# Altium schematic symbol library Operational Amplifiers.SchLib: 125 symbols
Pins are listed as number, name and electrical type; pins without a type are passive.

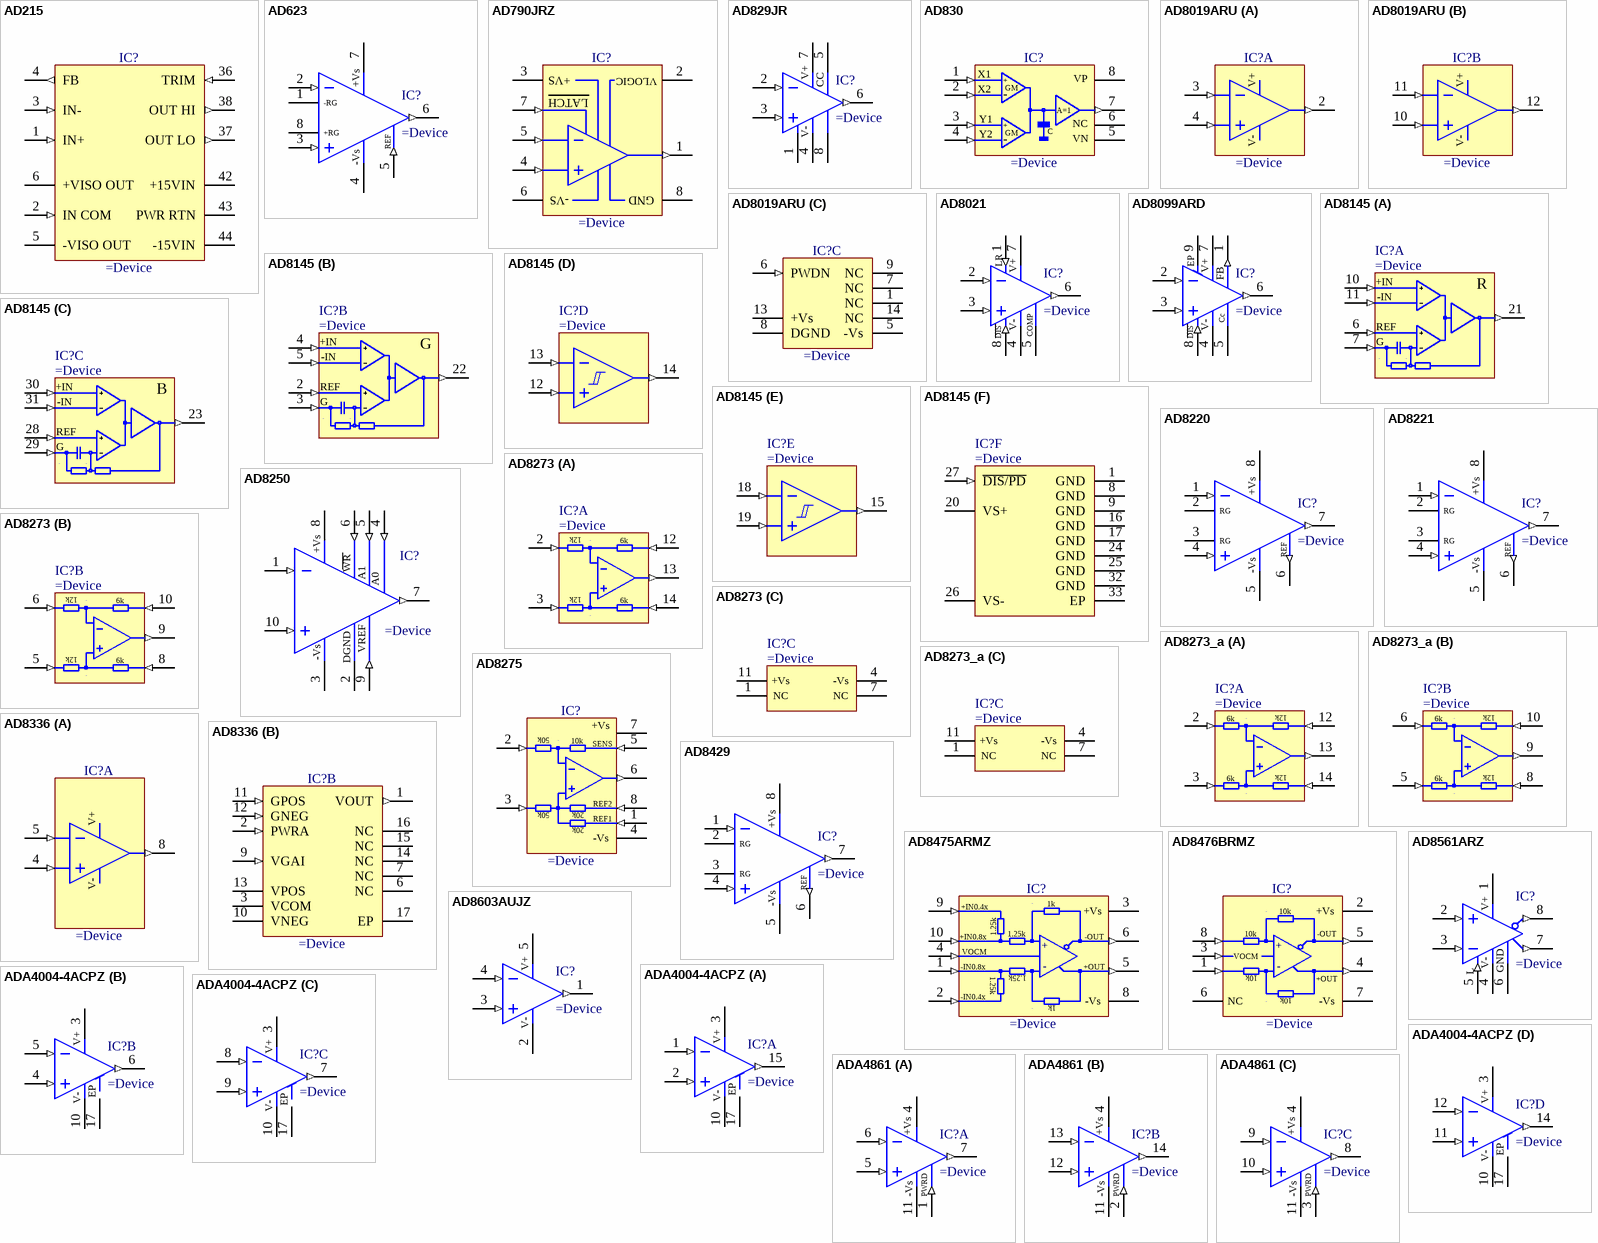
[diagram p0: symbols AD215 to ADA4861]

## AD215
designator IC?
120 kHz Bandwidth, Low Distortion, Isolation Amplifier
pins: 1 IN+ (in), 2 IN COM (in), 3 IN- (in), 4 FB (out), 5 -VISO OUT (power), 6 +VISO OUT (power), 36 TRIM (in), 37 OUT LO (out), 38 OUT HI (out), 42 +15VIN (power), 43 PWR RTN (power), 44 -15VIN (power)

## AD623
designator IC?
ingle-Supply, Rail-to-Rail, Low Cost  Instrumentation Amplifier
pins: 1 -RG, 2 -IN (in), 3 +IN (in), 4 -Vs (power), 5 REF (in), 6 Vout (out), 7 +Vs (power), 8 +RG

## AD790JRZ
designator IC?
Fast Precision Comparator
pins: 1 OUT (out), 2 VLOGIC (power), 3 +VS (power), 4 +IN (in), 5 -IN (in), 6 -VS (power), 7 ~{LATCH} (in), 8 GND (power)
text: LATCH

## AD829JR
designator IC?
High Speed, Low Noise Video Operational Amplifier
pins: 1 ~{DS}, 2 IN- (in), 3 IN+ (in), 4 V- (power), 5 CCOMP, 6 OUT (out), 7 V+ (power), 8 COMP
text: CC

## AD830
designator IC?
High Speed, Difference Amplifier
pins: 1 X1 (in), 2 X2 (in), 3 Y1 (in), 4 Y2 (in), 5 VN (power), 6 NC, 7 OUT (out), 8 VP (power)
text: +; GM; -; A=1; C

## AD8019ARU
designator IC?
DSL Line Driver Amplifier With Power-Down
part A pins: 2 OUT (out), 3 -IN (in), 4 +IN (in)
part B pins: 10 +IN (in), 11 -IN (in), 12 OUT (out)
part C pins: 1 NC, 5 -Vs (power), 6 PWDN (in), 7 NC, 8 DGND (power), 9 NC, 13 +Vs (power), 14 NC
part A text: V+; V-
part B text: V+; V-

## AD8021
designator IC?
Low Noise, High Speed Amplifier for 16-Bit Systems
pins: 1 LOGIC REF (in), 2 IN- (in), 3 IN+ (in), 4 V- (power), 5 COMP, 6 OUT (out), 7 V+ (power), 8 ~{DS} (in)
text: LR; DIS

## AD8099ARD
designator IC?
Ultralow Distortion, High Speed 0.95nV/sqrt Hz Voltage Noise Operational Amplifier
pins: 1 FB (out), 2 IN- (in), 3 IN+ (in), 4 V- (power), 5 CC, 6 OUT (out), 7 V+ (power), 8 ~{DS} (in), 9 EP (power)
text: Cc; DIS

## AD8145
designator IC?
High Speed, Triple Differential Receiver With Comparators
part A pins: 6 REF_R (in), 7 GAIN_R (in), 10 IN+_R (in), 11 IN-_R (in), 21 OUT_R (out)
part B pins: 2 REF_G (in), 3 GAIN_G (in), 4 IN+_G (in), 5 IN-G (in), 22 OUT_G (out)
part C pins: 23 OUT_B (out), 28 REF_B (in), 29 GAIN_B (in), 30 IN+_B (in), 31 IN-_B (in)
part D pins: 12 COMPA_IN+ (in), 13 COMPA_IN- (in), 14 COMPA_OUT (out)
part E pins: 15 COMPB_OUT (out), 18 COMPB_IN- (in), 19 COMPB_IN+ (in)
part F pins: 1 GND (power), 8 GND (power), 9 GND (power), 16 GND (power), 17 GND (power), 20 VS+ (power), 24 GND (power), 25 GND (power), 26 VS- (power), 27 ~{DIS/PD} (in), 32 GND (power), 33 EP (power)
part A text: +IN; R; -IN; REF; G
part B text: +IN; G; -IN; REF
part C text: +IN; B; -IN; REF; G

## AD8220
designator IC?
JFET Input Instrumentation Amplifier with Rail-to-Rail Output
pins: 1 -IN (in), 2 RG, 3 RG, 4 +IN (in), 5 -Vs (power), 6 REF (out), 7 Vout (out), 8 +Vs (power)

## AD8221
designator IC?
Precision Instrumentation Amplifier
pins: 1 -IN (in), 2 RG, 3 RG, 4 +IN (in), 5 -Vs (power), 6 REF (out), 7 Vout (out), 8 +Vs (power)

## AD8250
designator IC?
10MHz, 20V/us, G= 1, 2, 5, 10 Icmos Programmable Gain Instrumentation Amplifier
pins: 1 -IN (in), 2 DGND (power), 3 -VS (power), 4 A0 (in), 5 A1 (in), 6 ~{WR} (in), 7 OUT (out), 8 +VS (power), 9 REF (in), 10 +IN (in)
text: +Vs; WR; VREF; -Vs

## AD8273
designator IC?
Very Low Distortion, Dual-Channel, High Precision Difference Amplifier
part A pins: 2 -INA (in), 3 +INA (in), 12 SENSEA (in), 13 OUTA (out), 14 REFA (in)
part B pins: 5 +INB (in), 6 -INB (in), 8 REFB (in), 9 OUTB (out), 10 SENSEB (in)
part C pins: 1 NC, 4 -Vs (power), 7 NC, 11 +Vs (power)
part A text: 12k; 6k
part B text: 12k; 6k

## AD8273_a
designator IC?
Very Low Distortion, Dual-Channel, High Precision Difference Amplifier
part A pins: 2 -INA (in), 3 +INA (in), 12 SENSEA (in), 13 OUTA (out), 14 REFA (in)
part B pins: 5 +INB (in), 6 -INB (in), 8 REFB (in), 9 OUTB (out), 10 SENSEB (in)
part C pins: 1 NC, 4 -Vs (power), 7 NC, 11 +Vs (power)
part A text: 6k; 12k
part B text: 6k; 12k

## AD8275
designator IC?
G = 0.2, Level Translation, 16-Bit ADC Driver
pins: 1 REF1 (in), 2 IN- (in), 3 IN+ (in), 4 -Vs (power), 5 SENSE (in), 6 OUT (out), 7 +Vs (power), 8 REF2 (in)
text: 50k; 10k; SENS; 20k

## AD8336
designator IC?
Wide Bandwidth, DC Coupled Variable Gain Amplifiers
part A pins: 4 IN+ (in), 5 IN- (in), 8 PRAO (out)
part B pins: 1 VOUT (out), 2 PWRA (in), 3 VCOM (power), 6 NC, 7 NC, 9 VGAI (in), 10 VNEG (power), 11 GPOS (in), 12 GNEG (in), 13 VPOS (power), 14 NC, 15 NC, 16 NC, 17 EP (power)
part A text: V+; V-

## AD8429
designator IC?
1 nV/sqrt Hz Low Noise Instrumentation Amplifier
pins: 1 -IN (in), 2 RG, 3 RG, 4 +IN (in), 5 -Vs (power), 6 REF (out), 7 Vout (out), 8 +Vs (power)

## AD8475ARMZ
designator IC?
Precision, Selectable Gain, Fully Differential Funnel Amplifier
pins: 1 -IN0.8x (in), 2 -IN0.4x (in), 3 +Vs (power), 4 VOCM (in), 5 OUT+ (out), 6 OUT- (out), 8 -Vs (power), 9 +IN0.4x (in), 10 +IN0.8x (in)
text: 1k; 1.25k; -OUT; +; -; +OUT

## AD8476BRMZ
designator IC?
Low Power, Unity Gain, Fully Differential Amplifier and ADC Driver
pins: 1 IN- (in), 2 +Vs (power), 3 VOCM (in), 4 +OUT (out), 5 -OUT (out), 6 NC, 7 -Vs (power), 8 IN+ (in)
text: 10k; +; -

## AD8561ARZ
designator IC?
Ultrafast 7ns Single Supply Comparator
pins: 1 V+ (power), 2 IN+ (in), 3 IN- (in), 4 V- (power), 5 LE (in), 6 GND (power), 7 OUT (out), 8 ~{OUT} (out)
text: L

## AD8603AUJZ
designator IC?
Precision Micropower, Low Noise CMOS, Rail-to-Rail Input/Output Operational Amplifier
pins: 1 OUT (out), 2 V- (power), 3 IN+ (in), 4 IN- (in), 5 V+ (power)

## ADA4004-4ACPZ
designator IC?
Quad Operational Amplifier
pins on every part: 3 V+ (power), 10 V- (power), 17 EP (power)
part A pins: 1 IN- (in), 2 IN+ (in), 15 OUT (out)
part B pins: 4 IN+ (in), 5 IN- (in), 6 OUT (out)
part C pins: 7 OUT (out), 8 IN- (in), 9 IN+ (in)
part D pins: 11 IN+ (in), 12 IN- (in), 14 OUT (out)

## ADA4861
designator IC?
High Speed, Low Cost, Triple Operational Amplifier
pins on every part: 4 +Vs (power), 11 -Vs (power)
part A pins: 1 PWRDOWN (in), 5 IN+ (in), 6 IN- (in), 7 OUT (out)
part B pins: 2 PWRDOWN (in), 12 IN+ (in), 13 IN- (in), 14 OUT (out)
part C pins: 3 PWRDOWN (in), 8 OUT (out), 9 IN- (in), 10 IN+ (in)
part A text: PWRD
part B text: PWRD
part C text: PWRD

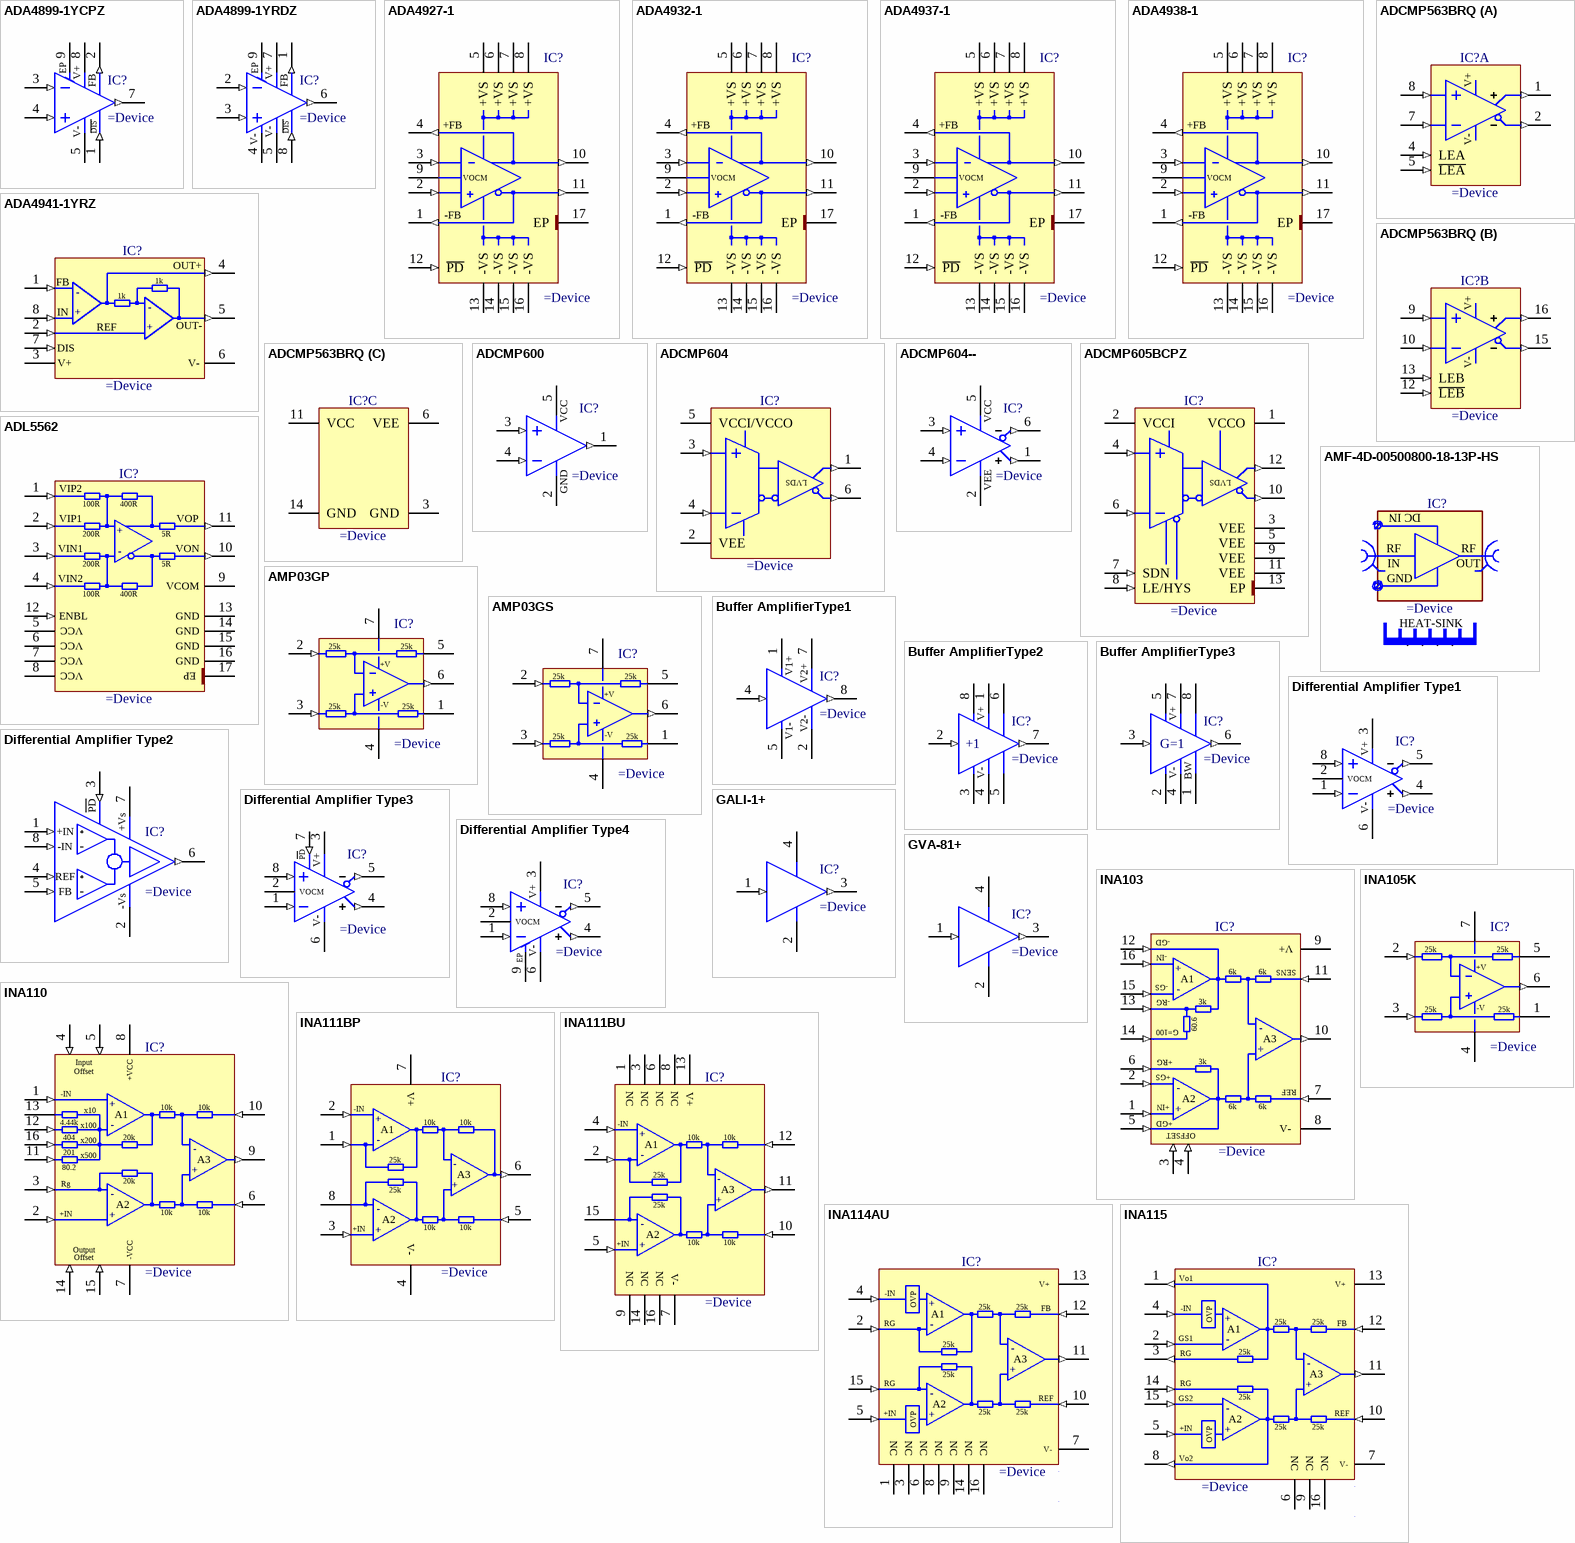
[diagram p1: symbols ADA4899-1YCPZ to INA115]

## ADA4899-1YCPZ
designator IC?
Unity-Gain Stable, Ultralow Distortion, 1 nV/vHz Voltage Noise, High Speed Operational Amplifier
pins: 1 ~{DIS} (in), 2 FB (out), 3 IN- (in), 4 IN+ (in), 5 V- (power), 7 OUT (out), 8 V+ (power), 9 EP (power)
text: DIS

## ADA4899-1YRDZ
designator IC?
Unity-Gain Stable, Ultralow Distortion, 1 nV/vHz Voltage Noise, High Speed Operational Amplifier
pins: 1 FB (out), 2 IN- (in), 3 IN+ (in), 4 V- (power), 5 V- (power), 6 OUT (out), 7 V+ (power), 8 ~{DIS} (in), 9 EP (power)
text: DIS

## ADA4927-1
designator IC?
Ultralow Distortion Current Feedback Differential ADC Driver
pins: 1 -FB (out), 2 +IN (in), 3 -IN (in), 4 +FB (out), 5 +VS (power), 6 +VS (power), 7 +VS (power), 8 +VS (power), 9 VOCM, 10 +OUT (out), 11 -OUT (out), 12 ~{PD} (in), 13 -VS (power), 14 -VS (power), 15 -VS (power), 16 -VS (power), 17 EP (power)

## ADA4932-1
designator IC?
Low Power Differential ADC Driver
pins: 1 -FB (out), 2 +IN (in), 3 -IN (in), 4 +FB (out), 5 +VS (power), 6 +VS (power), 7 +VS (power), 8 +VS (power), 9 VOCM, 10 +OUT (out), 11 -OUT (out), 12 ~{PD} (in), 13 -VS (power), 14 -VS (power), 15 -VS (power), 16 -VS (power), 17 EP (power)

## ADA4937-1
designator IC?
Single Ultralow Distortion Differential ADC Driver
pins: 1 -FB (out), 2 +IN (in), 3 -IN (in), 4 +FB (out), 5 +VS (power), 6 +VS (power), 7 +VS (power), 8 +VS (power), 9 VOCM, 10 +OUT (out), 11 -OUT (out), 12 ~{PD} (in), 13 -VS (power), 14 -VS (power), 15 -VS (power), 16 -VS (power), 17 EP (power)

## ADA4938-1
designator IC?
Single Ultralow Distortion Differential ADC Driver
pins: 1 -FB (out), 2 +IN (in), 3 -IN (in), 4 +FB (out), 5 +VS (power), 6 +VS (power), 7 +VS (power), 8 +VS (power), 9 VOCM, 10 +OUT (out), 11 -OUT (out), 12 ~{PD} (in), 13 -VS (power), 14 -VS (power), 15 -VS (power), 16 -VS (power), 17 EP (power)

## ADA4941-1YRZ
designator IC?
Single-Supply, Differential 18-Bit ADC Driver
pins: 1 FB (in), 2 REF (in), 3 V+ (power), 4 OUT+ (out), 5 OUT- (out), 6 V- (power), 7 DIS (in), 8 IN (in)
text: 1k; -; +

## ADCMP563BRQ
designator IC?
Dual, High Speed ECL Comparators
part A pins: 1 QA (out), 2 ~{QA} (out), 4 LEA (in), 5 ~{LEA} (in), 7 -INA (in), 8 +INA (in)
part B pins: 9 +INB (in), 10 -INB (in), 12 ~{LEB} (in), 13 LEB (in), 15 ~{QB} (out), 16 QB (out)
part C pins: 3 GND (power), 6 VEE (power), 11 VCC (power), 14 GND (power)
part A text: V+; V-
part B text: V+; V-

## ADCMP600
designator IC?
Rail-to-Rail, Very Fast, 2.5 V to 5.5 V Single-Supply TTL/CMOS Comparator
pins: 1 q (out), 2 GND (power), 3 VP (in), 4 VN (in), 5 VCC (power)

## ADCMP604
designator IC?
Rail-to-Rail, Very Fast, 2.5 V to 5.5 V Single-Supply LVDS Comparators
pins: 1 Q (out), 2 VEE (power), 3 VP (in), 4 VN (in), 5 VCCI/VCCO (power), 6 ~{Q} (out)
text: LVDS

## ADCMP604--
designator IC?
Rail-to-Rail, Very Fast, 2.5 V to 5.5 V Single-Supply LVDS Comparators
pins: 1 Q (out), 2 VEE (power), 3 VP (in), 4 VN (in), 5 VCC (power), 6 ~{Q} (out)

## ADCMP605BCPZ
designator IC?
Rail-to-Rail, Very Fast, 2.5 V to 5.5 V Single-Supply LVDS Comparators
pins: 1 VCCO (power), 2 VCCI (power), 3 VEE (power), 4 VP (in), 5 VEE (power), 6 VN (in), 7 SDN (in), 8 LE/HYS (in), 9 VEE (power), 10 ~{Q} (out), 11 VEE (power), 12 Q (out), 13 EP (power)
text: LVDS

## ADL5562
designator IC?
3.3 GHz Ultralow Distortion RF/IF Differential Amplifier
pins: 1 VIP2 (in), 2 VIP1 (in), 3 VIN1 (in), 4 VIN2 (in), 5 VCC (power), 6 VCC (power), 7 VCC (power), 8 VCC (power), 9 VCOM (power), 10 VON (out), 11 VOP (out), 12 EN (in), 13 GND (power), 14 GND (power), 15 GND (power), 16 GND (power), 17 EP (power)
text: 100R; 400R; 200R; +; 5R; -; ENBL

## AMF-4D-00500800-18-13P-HS
designator IC?
3.5 - 15GHz AMF Series Amplifier
pins: 1 CASE (power), 2 CASE (power), 3 CASE (power), 4 CASE (power)
text: DC IN; RF; IN; OUT; GND; HEAT-SINK

## AMP03GP
designator IC?
Precision, Unity-Gain Differential Amplifier
pins: 1 REF, 2 IN- (in), 3 IN+ (in), 4 -VEE (power), 5 SENS, 6 OUT (out), 7 +VCC (power)
text: 25k; +V; -V

## AMP03GS
designator IC?
Precision, Unity-Gain Differential Amplifier
pins: 1 REF, 2 IN- (in), 3 IN+ (in), 4 -VEE (power), 5 SENS, 6 OUT (out), 7 +VCC (power)
text: 25k; +V; -V

## Buffer AmplifierType1
designator IC?
Buffer Amplifier
pins: 1 V1+ (power), 2 V2- (power), 4 IN (in), 5 V1- (power), 7 V2+ (power), 8 OUT (out)

## Buffer AmplifierType2
designator IC?
Buffer Amplifier
pins: 1 V+ (power), 2 IN (in), 3 NC, 4 V- (power), 5 NC, 6 NC, 7 OUT (out), 8 NC
text: +1

## Buffer AmplifierType3
designator IC?
Buffer Amplifier
pins: 1 BW, 2 NC, 3 IN (in), 4 V- (power), 5 NC, 6 OUT (out), 7 V+ (power), 8 NC
text: G=1

## Differential Amplifier Type1
designator IC?
Differential Amplifier
pins: 1 IN- (in), 2 VOCM, 3 V+ (power), 4 VOUT+ (out), 5 VOUT- (out), 6 V- (power), 8 IN+ (in)

## Differential Amplifier Type2
designator IC?
Differential Receiver Amplifier
pins: 1 +IN (in), 2 -Vs (power), 3 ~{PD} (in), 4 REF (in), 5 FB (in), 6 OUT (out), 7 +Vs (power), 8 -IN (in)
text: PD

## Differential Amplifier Type3
designator IC?
Differential Amplifier
pins: 1 IN- (in), 2 VOCM, 3 Vs+ (power), 4 VOUT+ (out), 5 VOUT- (out), 6 Vs- (power), 7 ~{PD} (in), 8 IN+ (in)
text: PD; V+; V-

## Differential Amplifier Type4
designator IC?
Differential Amplifier
pins: 1 IN- (in), 2 VOCM, 3 V+ (power), 4 VOUT+ (out), 5 VOUT- (out), 6 V- (power), 8 IN+ (in), 9 Exposed Pad (power)
text: EP

## GALI-1+
designator IC?
DC-8 GHz Surface Mount Monolithic Amplifier
pins: 1 RF IN (in), 2 GND (power), 3 RF OUT (out), 4 GND (power)

## GVA-81+
designator IC?
5 Volt-Surface Mount Monolithic Amplifier
pins: 1 RF IN (in), 2 GND (power), 3 RF OUT (out), 4 GND (power)

## INA103
designator IC?
Low Noise, Low Distortion Instrumentation Amplifier
pins: 1 +IN (in), 2 +GAINS (in), 3 +OFFSET (in), 4 -OFFSET (in), 5 +GAIND (in), 6 +RG (in), 7 REF (in), 8 V- (power), 9 V+ (power), 10 OUT (out), 11 SENSE (in), 12 -GD (in), 13 -RG (in), 14 G=100 (in), 15 -GAINS (in), 16 -IN (in)
text: +; 6k; SENS; A1; -GS; -; 3k; 60.6; A3; +GS; A2; +GD; OFFSET

## INA105K
designator IC?
Precision, Unity-Gain Differential Amplifier
pins: 1 REF, 2 IN- (in), 3 IN+ (in), 4 -VEE (power), 5 SENS, 6 OUT (out), 7 +VCC (power)
text: 25k; +V; -V

## INA110
designator IC?
Fast-Settling FET-Input Very High Accuracy Instrumentation Amplifier
pins: 1 VIN- (in), 2 VIN+ (in), 3 RG (in), 4 OFFSET (in), 5 OFFSET (in), 6 REF (in), 7 -VCC (power), 8 +VCC (power), 9 OUT (out), 10 Sense (in), 11 x500 (in), 12 x100 (in), 13 x10, 14 OFFSET (in), 15 OFFSET (in), 16 x200 (in)
text: Input; Offset; -IN; +; 10k; A1; 4.44k; -; 404; 20k; 201; A3; 80.2; Rg; A2; +IN; Output

## INA111BP
designator IC?
High Speed FET-Input Instrumentation Amplifier
pins: 1 RG (in), 2 VIN- (in), 3 VIN+ (in), 4 V- (power), 5 REF (in), 6 VO (out), 7 V+ (power), 8 RG
text: -IN; +; 10k; A1; -; 25k; A3; A2; +IN

## INA111BU
designator IC?
High Speed FET-Input Instrumentation Amplifier
pins: 1 NC, 2 RG (in), 3 NC, 4 VIN- (in), 5 VIN+ (in), 6 NC, 7 V- (power), 8 NC, 9 NC, 10 REF (in), 11 VO (out), 12 FB (in), 13 V+ (power), 14 NC, 15 RG, 16 NC
text: -IN; +; 10k; A1; -; 25k; A3; A2; +IN

## INA114AU
designator IC?
Precision, Instrumentation Amplifier
pins: 1 NC, 2 RG (in), 3 NC, 4 -IN (in), 5 +IN (in), 6 NC, 7 V- (power), 8 NC, 9 NC, 10 REF (in), 11 VO (out), 12 FB (in), 13 V+ (power), 14 NC, 15 RG (in), 16 NC
text: OVP; +; 25k; A1; -; A3; A2

## INA115
designator IC?
Precision, Instrumentation Amplifier
pins: 1 Vo1 (out), 2 GS1 (in), 3 RG (out), 4 -IN (in), 5 +IN (in), 6 NC, 7 V- (power), 8 Vo2 (out), 9 NC, 10 REF (in), 11 Vo (out), 12 FB (in), 13 V+ (power), 14 RG (in), 15 GS2 (in), 16 NC
text: OVP; +; 25k; A1; -; A3; A2

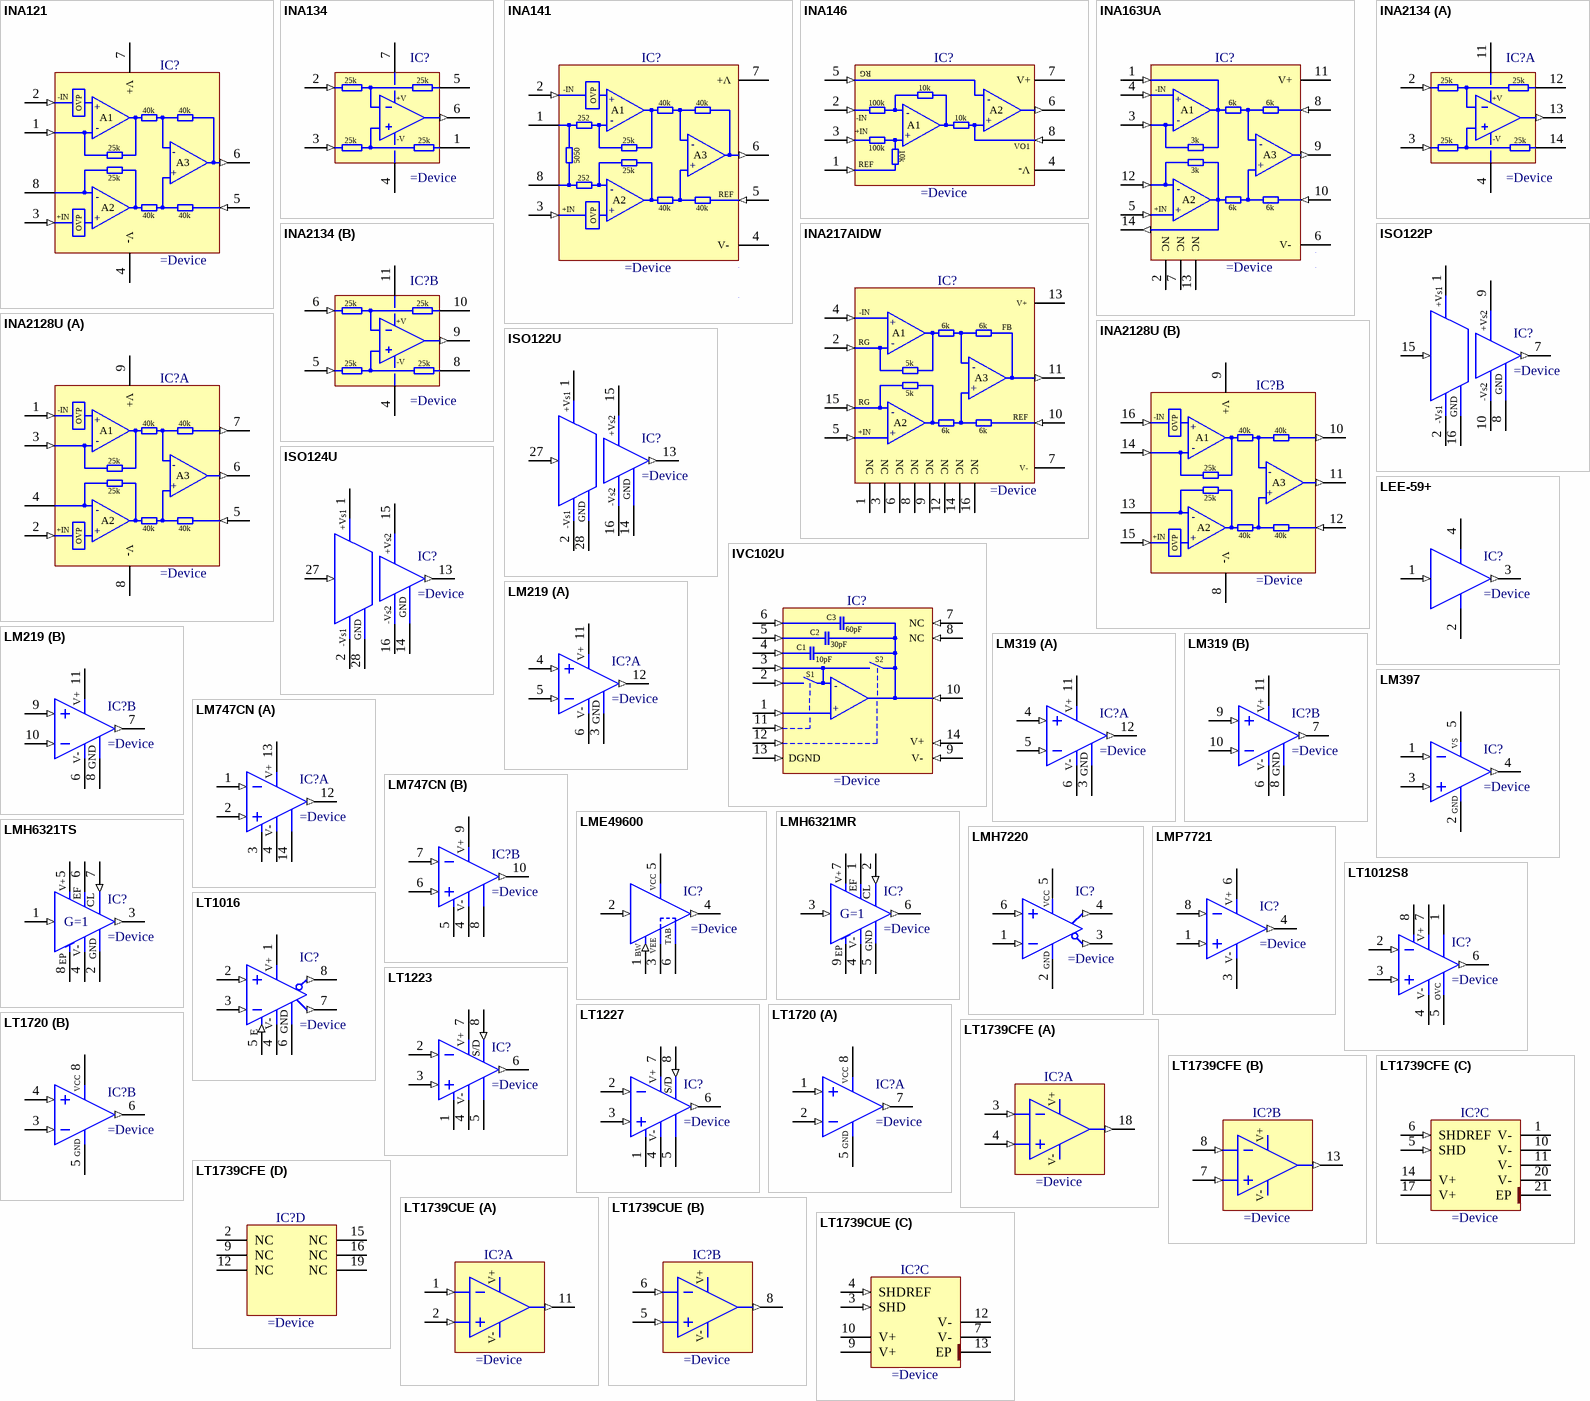
[diagram p2: symbols INA121 to LT1739CUE]

## INA121
designator IC?
FET-Input, Low Power Instrumentation Amplifier
pins: 1 RG (in), 2 VIN- (in), 3 VIN+ (in), 4 V- (power), 5 REF (in), 6 VO (out), 7 V+ (power), 8 RG
text: -IN; OVP; +; 40k; A1; -; 25k; A3; A2; +IN

## INA134
designator IC?
Audio Differential Line Receiver 0dB (G = 1)
pins: 1 REF, 2 IN- (in), 3 IN+ (in), 4 -VEE (power), 5 SENS, 6 OUT (out), 7 +VCC (power)
text: 25k; +V; -V

## INA141
designator IC?
Precision, Low Power, G = 10, 100 Instrumentation Amplifier
pins: 1 J, 2 vin- (in), 3 VIN+ (in), 4 V- (power), 5 REF (in), 6 Vo (out), 7 V+ (power), 8 J
text: -IN; OVP; +; 40k; A1; 252; -; 25k; 5050; A3; A2; +IN

## INA146
designator IC?
High-Voltage, Programmable Gain Difference Amplifier
pins: 1 REF (in), 2 VIN- (in), 3 VIN+ (in), 4 V- (power), 5 REF (in), 6 Vo (out), 7 V+ (power), 8 VO1 (in)
text: RG; 10k; 100k; -; A2; -IN; +; A1; +IN

## INA163UA
designator IC?
Low-Noise, Low-Distortion, Instrumentation Amplifier
pins: 1 VO1 (in), 2 NC, 3 GS1 (in), 4 VIN- (in), 5 VIN+ (in), 6 V- (power), 7 NC, 8 SENSE (in), 9 VO (out), 10 REF (in), 11 V+ (power), 12 GS2 (in), 13 NC, 14 VO2 (out)
text: -IN; +; 6k; A1; -; 3k; A3; A2; +IN

## INA217AIDW
designator IC?
Low-Noise, Low-Distortion, Instrumentation Amplifier
pins: 1 NC, 2 RG1 (in), 3 NC, 4 -IN (in), 5 +IN (in), 6 NC, 7 V- (power), 8 NC, 9 NC, 10 REF (in), 11 VO (out), 12 NC, 13 V+ (power), 14 NC, 15 RG2 (in), 16 NC
text: +; 6k; FB; A1; RG; -; 5k; A3; A2

## INA2128U
designator IC?
Dual, Low Power Instrumentation Amplifier
pins on every part: 8 V- (power), 9 V+ (power)
part A pins: 1 VINA- (in), 2 VINA+ (in), 3 RGA (in), 4 RGA, 5 REFA (in), 6 VOA (out), 7 SENSEA (out)
part B pins: 10 SENSEB (out), 11 VOB (out), 12 REFB (in), 13 RGB, 14 RGB (in), 15 VINB+ (in), 16 VINB- (in)
part A text: -IN; OVP; +; 40k; A1; -; 25k; A3; A2; +IN
part B text: -IN; OVP; +; 40k; A1; -; 25k; A3; A2; +IN

## INA2134
designator IC?
Dual Audio Differential Line Receiver 0dB (G = 1)
pins on every part: 4 V- (power), 11 V+ (power)
part A pins: 2 IN- (in), 3 IN+ (in), 12 SENS, 13 OUT (out), 14 REF
part B pins: 5 IN+ (in), 6 IN- (in), 8 REF, 9 OUT (out), 10 SENS
part A text: 25k; +V; -V
part B text: 25k; +V; -V

## ISO122P
designator IC?
Precision Lowest Cost Isolation Amplifier
pins: 1 +Vs1 (power), 2 -Vs1 (power), 7 VOUT (out), 8 GND (power), 9 +Vs2 (power), 10 -Vs2 (power), 15 VIN (in), 16 GND (power)

## ISO122U
designator IC?
Precision Lowest Cost Isolation Amplifier
pins: 1 +Vs1 (power), 2 -Vs1 (power), 13 VOUT (out), 14 GND (power), 15 +Vs2 (power), 16 -Vs2 (power), 27 VIN (in), 28 GND (power)

## ISO124U
designator IC?
Precision Lowest Cost Isolation Amplifier
pins: 1 +Vs1 (power), 2 -Vs1 (power), 13 VOUT (out), 14 GND2 (power), 15 +Vs2 (power), 16 -Vs2 (power), 27 VIN (in), 28 GND1 (power)
text: GND

## IVC102U
designator IC?
Precision Switched Integrator Transimpedance Amplifier
pins: 1 AGND (in), 2 IIN (in), 3 -IN (in), 4 C1 (in), 5 C2 (in), 6 C3 (in), 7 NC (in), 8 NC (in), 9 V- (in), 10 Vo (in), 11 S1 (in), 12 S2 (in), 13 DGND (in), 14 V+ (in)
text: 60pF; 30pF; 10pF; -; +

## LEE-59+
designator IC?
DC-5GGHz Monolithic Amplifier
pins: 1 RF IN (in), 2 GND (power), 3 RF OUT (out), 4 GND (power)

## LM219
designator IC?
High Speed Dual Comparators
pins on every part: 6 V- (power), 11 V+ (power)
part A pins: 3 GND1 (power), 4 IN+ (in), 5 IN- (in), 12 OUT1 (out)
part B pins: 7 OUT2 (out), 8 GND2 (power), 9 IN+ (in), 10 IN- (in)
part A text: GND
part B text: GND

## LM319
designator IC?
High Speed Dual Comparators
pins on every part: 6 V- (power), 11 V+ (power)
part A pins: 3 GND1 (power), 4 IN+ (in), 5 IN- (in), 12 OUT1 (out)
part B pins: 7 OUT2 (out), 8 GND2 (power), 9 IN+ (in), 10 IN- (in)
part A text: GND
part B text: GND

## LM397
designator IC?
Single General Purpose Voltage Comparator
pins: 1 IN- (in), 2 GND (power), 3 IN+ (in), 4 OUT (out), 5 VS (power)

## LM747CN
designator IC?
Dual Operational Amplifier
pins on every part: 4 V- (power)
part A pins: 1 IN- (in), 2 IN+ (in), 3 OFFSET, 12 OUT (out), 13 V+ (power), 14 OFFSET
part B pins: 5 OFFSET, 6 IN+ (in), 7 IN- (in), 8 OFFSET, 9 V+ (power), 10 OUT (out)

## LME49600
designator IC?
High Performance, High Fidelity, High Current Audio Buffer
pins: 1 BW (in), 2 IN (in), 3 VEE (power), 4 OUT (out), 5 VCC (power), 6 TAB (power)

## LMH6321MR
designator IC?
Buffer Amplifier
pins: 1 BW (oc), 2 NC (in), 3 IN (in), 4 V- (power), 5 NC, 6 OUT (out), 7 V+ (power), 9 NC (power)
text: EF; CL; G=1; GND; EP

## LMH6321TS
designator IC?
Buffer Amplifier
pins: 1 IN (in), 2 NC, 3 OUT (out), 4 V- (power), 5 V+ (power), 6 BW (oc), 7 NC (in), 8 NC (power)
text: EF; CL; G=1; GND; EP

## LMH7220
designator IC?
High Speed Comparator with LVDS Output
pins: 1 IN- (in), 2 GND (power), 3 VOUT~{Q} (out), 4 VOUTQ (out), 5 VCC (power), 6 IN+ (in)

## LMP7721
designator IC?
Femtoampere Input Bias Current Precision Amplifier
pins: 1 IN+ (in), 3 V- (power), 4 OUT (out), 6 V+ (power), 8 IN- (in)

## LT1012S8
designator IC?
Picoamp Input Current, Microvolt Offset, Low Noise Operational Amplifier
pins: 1 TRIM`, 2 IN- (in), 3 IN+ (in), 4 V- (power), 5 CC, 6 OUT (out), 7 V+ (power), 8 TRIM
text: OVC

## LT1016
designator IC?
UltraFast Precision 10ns Comparator
pins: 1 V+ (power), 2 IN+ (in), 3 IN- (in), 4 V- (power), 5 LE (in), 6 GND (power), 7 OUT (out), 8 ~{OUT} (out)
text: E

## LT1223
designator IC?
100MHz Current Feedback Amplifier
pins: 1 OFFSET, 2 IN- (in), 3 IN+ (in), 4 V- (power), 5 OFFSET, 6 OUT (out), 7 V+ (power), 8 SHDN (in)
text: S/D

## LT1227
designator IC?
140MHz Video Current Feedback Amplifier
pins: 1 OFFSET, 2 IN- (in), 3 IN+ (in), 4 V- (power), 5 OFFSET, 6 OUT (out), 7 V+ (power), 8 SHDN (in)
text: S/D

## LT1720
designator IC?
Dual 4.5ns, Single Supply 3V/5V Comparators With Rail-to-Rail Outputs
pins on every part: 5 GND (power), 8 V+ (power)
part A pins: 1 IN+ (in), 2 IN- (in), 7 OUT (out)
part B pins: 3 IN- (in), 4 IN+ (in), 6 OUT (out)
part A text: VCC
part B text: VCC

## LT1739CFE
designator IC?
Dual 500mA, 200MHz xDSL Line Driver Amplifier
part A pins: 3 -IN (in), 4 +IN (in), 18 OUT (out)
part B pins: 7 +IN (in), 8 -IN (in), 13 OUT (out)
part C pins: 1 V- (power), 5 SHD (in), 6 SHDREF (in), 10 V- (power), 11 V- (power), 14 V+ (power), 17 V+ (power), 20 V- (power), 21 EP (power)
part D pins: 2 NC, 9 NC, 12 NC, 15 NC, 16 NC, 19 NC

## LT1739CUE
designator IC?
Dual 500mA, 200MHz xDSL Line Driver Amplifier
part A pins: 1 -IN (in), 2 +IN (in), 11 OUT (out)
part B pins: 5 +IN (in), 6 -IN (in), 8 OUT (out)
part C pins: 3 SHD (in), 4 SHDREF (in), 7 V- (power), 9 V+ (power), 10 V+ (power), 12 V- (power), 13 EP (power)

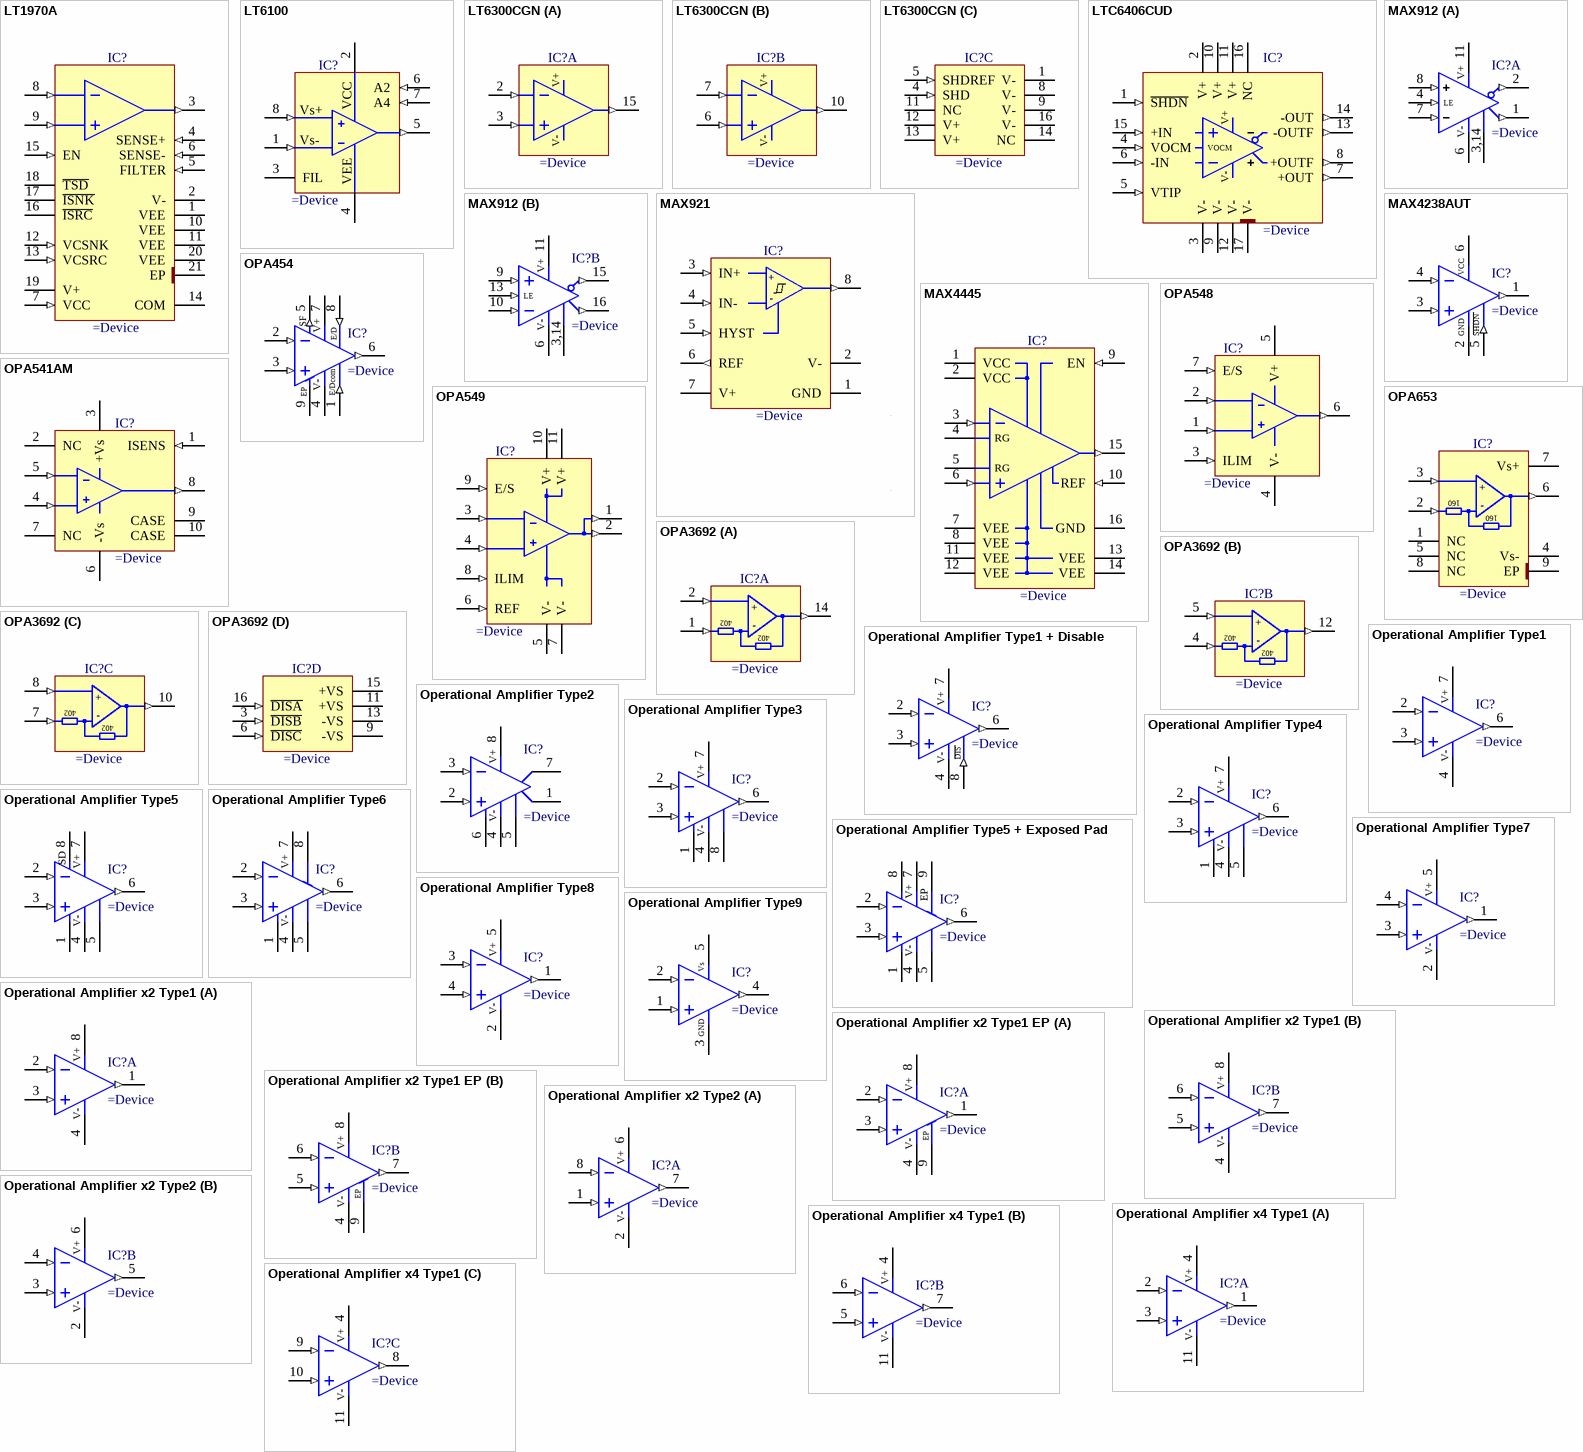
[diagram p3: symbols LT1970A to Operational Amplifier x4 Type1]

## LT1970A
designator IC?
500mA Power Operational Amplifier with Adjustable Precision Current Limit
pins: 1 VEE (power), 2 V- (power), 3 OUT (out), 4 SENSE+ (in), 5 FILTER (in), 6 SENSE- (in), 7 VCC (in), 8 -IN (in), 9 +IN (in), 10 VEE (power), 11 VEE (power), 12 VCSNK (in), 13 VCSRC (in), 14 COM (power), 15 EN (in), 16 ~{ISRC} (oc), 17 ~{ISNK} (oc), 18 ~{TSD} (oc), 19 V+ (power), 20 VEE (power), 21 EP (power)

## LT6100
designator IC?
Precision, Gain Selectable High Side Current Sense Amplifier
pins: 1 Vs- (in), 2 VCC (power), 3 FIL, 4 VEE (power), 5 VOUT (out), 6 A2 (in), 7 A4 (in), 8 Vs+ (in)

## LT6300CGN
designator IC?
Dual 500mA, 200MHz xDSL Line Driver Amplifier
part A pins: 2 -IN (in), 3 +IN (in), 15 OUT (out)
part B pins: 6 +IN (in), 7 -IN (in), 10 OUT (out)
part C pins: 1 V- (power), 4 SHD (in), 5 SHDREF (in), 8 V- (power), 9 V- (power), 11 NC, 12 V+ (power), 13 V+ (power), 14 NC, 16 V- (power)

## LTC6406CUD
designator IC?
3GHz, Low Noise, Rail-to-Rail Input Differential Amplifier/Driver
pins: 1 ~{SHDN} (in), 2 V+ (power), 3 V- (power), 4 VOCM (in), 5 VTIP (in), 6 -IN (in), 7 +OUT (out), 8 +OUTF (out), 9 V- (power), 10 V+ (power), 11 V+ (power), 12 V- (power), 13 -OUTF (out), 14 -OUT (out), 15 +IN (in), 16 NC, 17 V- (power)

## MAX912
designator IC?
Dual Differential Inputs and  Complementary TTL outputs
pins on every part: 3 GND (power), 6 V- (power), 11 V+ (power), 14 GND (power)
part A pins: 1 Q (out), 2 ~{Q} (out), 4 LE (in), 7 IN- (in), 8 IN+ (in)
part B pins: 9 IN+ (in), 10 IN- (in), 13 LE (in), 15 ~{Q} (out), 16 Q (out)
part A text: 3,14
part B text: 3,14

## MAX921
designator IC?
Ultra Low-Power,  Single/Dual-Supply Comparators
pins: 1 GND (power), 2 V- (power), 3 IN+ (in), 4 IN- (in), 5 HYST (in), 6 REF (out), 7 V+ (power), 8 OUT (out)
text: +; -

## MAX4238AUT
designator IC?
Ultra-Low Offset/Drift, Low-Noise, Precision Amplifiers
pins: 1 OUT (out), 2 GND (power), 3 IN+ (in), 4 IN- (in), 5 ~{SHDN} (in), 6 VCC (power)
text: SHDN

## MAX4445
designator IC?
Ultra-High-Speed, Low-Distortion, Differential-to-Single-Ended Line Receivers With Enable
pins: 1 VCC (power), 2 VCC (power), 3 IN- (in), 4 RG, 5 RG, 6 IN+ (in), 7 VEE (power), 8 VEE (power), 9 EN (in), 10 REF (in), 11 VEE (power), 12 VEE (power), 13 VEE (power), 14 VEE (power), 15 OUT (out), 16 GND (power)

## OPA454
designator IC?
High-Voltage (100V), High-Current (50mA) Operational Amplifier, G=1 Stable
pins: 1 E/Dcommon (in), 2 IN- (in), 3 IN+ (in), 4 V- (power), 5 Status Flag (out), 6 OUT (out), 7 V+ (power), 8 E/B (in), 9 Exposed Pad (power)
text: SF; E/D; E/Dcom; EP

## OPA541AM
designator IC?
High Power Monolithic Operational Amplifier
pins: 1 ISENS (in), 2 NC, 3 +Vs (power), 4 IN+ (in), 5 IN- (in), 6 -Vs (power), 7 NC, 8 VO (out), 9 CASE, 10 CASE

## OPA548
designator IC?
High-Voltage, High-Current Operational Amplifier
pins: 1 IN+ (in), 2 IN- (in), 3 ILIM (in), 4 V- (power), 5 V+ (power), 6 VO (out), 7 E/S (in)

## OPA549
designator IC?
High-Voltage, High-Current Operational Amplifier
pins: 1 VO (out), 2 VO (out), 3 IN- (in), 4 IN+ (in), 5 V- (power), 6 REF (in), 7 V- (power), 8 ILIM (in), 9 E/S (in), 10 V+ (power), 11 V+ (power)

## OPA653
designator IC?
Wideband, Fixed Gain, JFET-Input Amplifier
pins: 1 NC, 2 -IN (in), 3 +IN (in), 4 Vs- (power), 5 NC, 6 OUT (out), 7 Vs+ (power), 8 NC, 9 EP (power)
text: +; 160; -

## OPA3692
designator IC?
Triple, Wideband, Fixed Gain Video BUFFER AMPLIFIER With Disable
part A pins: 1 -INA (in), 2 +INA (in), 14 OUTA (out)
part B pins: 4 -INB (in), 5 +INB (in), 12 OUTB (out)
part C pins: 7 -INC (in), 8 +INC (in), 10 OUTC (out)
part D pins: 3 ~{DISB} (in), 6 ~{DISC} (in), 9 -VS (power), 11 +VS (power), 13 -VS (power), 15 +VS (power), 16 ~{DISA} (in)
part A text: +; 402; -
part B text: +; 402; -
part C text: +; 402; -

## Operational Amplifier Type1
designator IC?
Operational Amplifier
pins: 2 IN- (in), 3 IN+ (in), 4 V- (power), 6 OUT (out), 7 V+ (power)

## Operational Amplifier Type1 + Disable
designator IC?
Operational Amplifier with Disable
pins: 2 IN- (in), 3 IN+ (in), 4 V- (power), 6 OUT (out), 7 V+ (power), 8 ~{DIS} (in)
text: DIS

## Operational Amplifier Type2
designator IC?
Operational Amplifier Differential Outputs
pins: 1 EOUT (oe), 2 IN+ (in), 3 IN- (in), 4 V- (power), 5 OFFSET, 6 OFFSET, 7 COUT (oc), 8 V+ (power)

## Operational Amplifier Type3
designator IC?
Operational Amplifier with Offset 1-8
pins: 1 OFFSET, 2 IN- (in), 3 IN+ (in), 4 V- (power), 6 OUT (out), 7 V+ (power), 8 OFFSET

## Operational Amplifier Type4
designator IC?
Operational Amplifier with Offset 1-5
pins: 1 OFFSET, 2 IN- (in), 3 IN+ (in), 4 V- (power), 5 OFFSET, 6 OUT (out), 7 V+ (power)

## Operational Amplifier Type5
designator IC?
Operational Amplifier
pins: 1 NC, 2 IN- (in), 3 IN+ (in), 4 V- (power), 5 NC, 6 OUT (out), 7 V+ (power), 8 NC
text: SD

## Operational Amplifier Type5 + Exposed Pad
designator IC?
Operational Amplifier + Exposed Thermal Pad
pins: 1 NC, 2 IN- (in), 3 IN+ (in), 4 V- (power), 5 NC, 6 OUT (out), 7 V+ (power), 8 NC, 9 EP

## Operational Amplifier Type6
designator IC?
Operational Amplifier
pins: 1 OFFSET, 2 IN- (in), 3 IN+ (in), 4 V- (power), 5 OFFSET, 6 OUT (out), 7 V+ (power), 8 CASE

## Operational Amplifier Type7
designator IC?
Operational Amplifier
pins: 1 OUT (out), 2 V- (power), 3 IN+ (in), 4 IN- (in), 5 V+ (power)

## Operational Amplifier Type8
designator IC?
Operational Amplifier
pins: 1 OUT (out), 2 V- (power), 3 IN- (in), 4 IN+ (in), 5 V+ (power)

## Operational Amplifier Type9
designator IC?
Operational Amplifier
pins: 1 IN+ (in), 2 IN- (in), 3 GND (power), 4 OUT (out), 5 Vs (power)

## Operational Amplifier x2 Type1
designator IC?
Dual Operational Amplifier
pins on every part: 4 V- (power), 8 V+ (power)
part A pins: 1 OUT (out), 2 IN- (in), 3 IN+ (in)
part B pins: 5 IN+ (in), 6 IN- (in), 7 OUT (out)

## Operational Amplifier x2 Type1 EP
designator IC?
Dual Operational Amplifier With Exposed Pad
pins on every part: 4 V- (power), 8 V+ (power), 9 Exposed Pad (power)
part A pins: 1 OUT (out), 2 IN- (in), 3 IN+ (in)
part B pins: 5 IN+ (in), 6 IN- (in), 7 OUT (out)
part A text: EP
part B text: EP

## Operational Amplifier x2 Type2
designator IC?
Dual Operational Amplifier
pins on every part: 2 V- (power), 6 V+ (power)
part A pins: 1 IN+ (in), 7 OUT (out), 8 IN- (in)
part B pins: 3 IN+ (in), 4 IN- (in), 5 OUT (out)

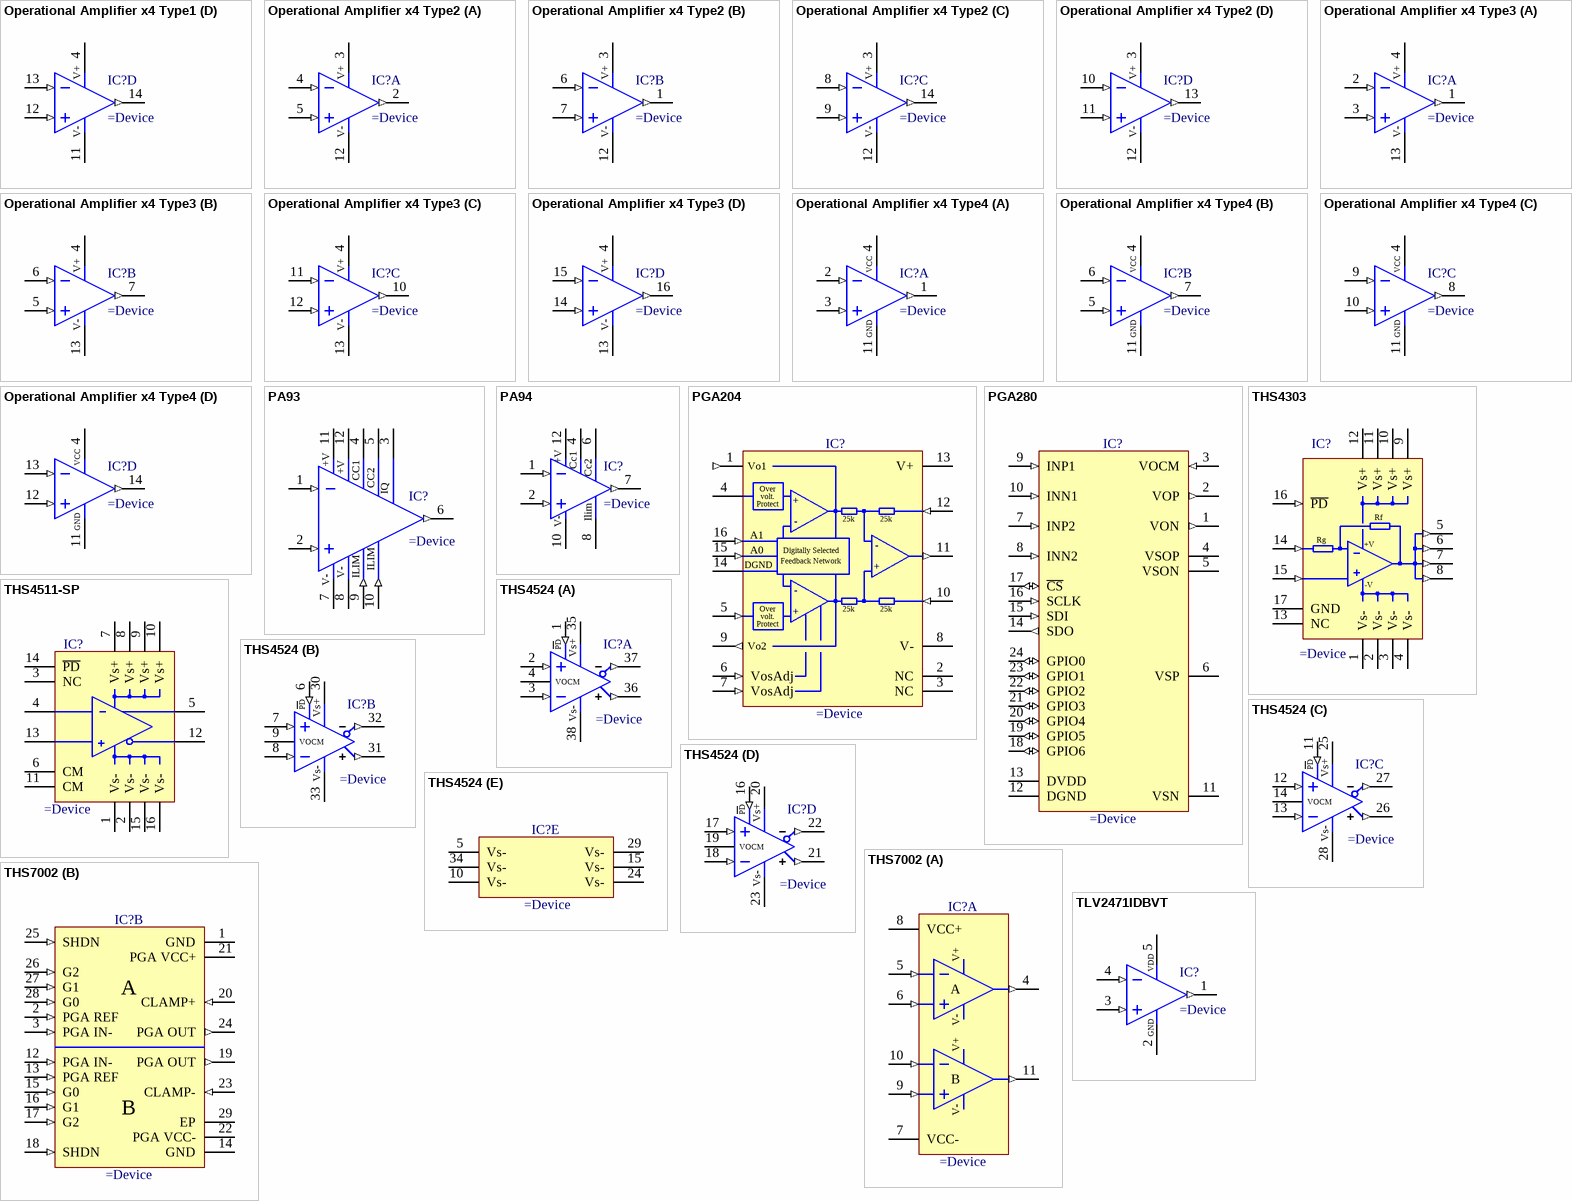
[diagram p4: symbols Operational Amplifier x4 Type1 to TLV2471IDBVT]

## Operational Amplifier x4 Type1
designator IC?
Quad Operational Amplifier
pins on every part: 4 V+ (power), 11 V- (power)
part A pins: 1 OUT (out), 2 IN- (in), 3 IN+ (in)
part B pins: 5 IN+ (in), 6 IN- (in), 7 OUT (out)
part C pins: 8 OUT (out), 9 IN- (in), 10 IN+ (in)
part D pins: 12 IN+ (in), 13 IN- (in), 14 OUT (out)

## Operational Amplifier x4 Type2
designator IC?
Quad Operational Amplifier
pins on every part: 3 V+ (power), 12 V- (power)
part A pins: 2 OUT (out), 4 IN- (in), 5 IN+ (in)
part B pins: 1 OUT (out), 6 IN- (in), 7 IN+ (in)
part C pins: 8 IN- (in), 9 IN+ (in), 14 OUT (out)
part D pins: 10 IN- (in), 11 IN+ (in), 13 OUT (out)

## Operational Amplifier x4 Type3
designator IC?
Quad Operational Amplifier
pins on every part: 4 V+ (power), 13 V- (power)
part A pins: 1 OUT (out), 2 IN- (in), 3 IN+ (in)
part B pins: 5 IN+ (in), 6 IN- (in), 7 OUT (out)
part C pins: 10 OUT (out), 11 IN- (in), 12 IN+ (in)
part D pins: 14 IN+ (in), 15 IN- (in), 16 OUT (out)

## Operational Amplifier x4 Type4
designator IC?
Quad Operational Amplifier
pins on every part: 4 V+ (power), 11 GND (power)
part A pins: 1 OUT (out), 2 IN- (in), 3 IN+ (in)
part B pins: 5 IN+ (in), 6 IN- (in), 7 OUT (out)
part C pins: 8 OUT (out), 9 IN- (in), 10 IN+ (in)
part D pins: 12 IN+ (in), 13 IN- (in), 14 OUT (out)
part A text: VCC
part B text: VCC
part C text: VCC
part D text: VCC

## PA93
designator IC?
High Voltage Power Operational Amplifier
pins: 1 IN- (in), 2 IN+ (in), 3 IQ, 4 Cc1, 5 Cc2, 6 OUT (out), 7 -Vs (power), 8 -Vs (power), 9 ILIM (in), 10 ILIM (in), 11 +Vs (power), 12 +Vs (power)
text: +V; CC1; CC2; V-

## PA94
designator IC?
High Voltage Power Operational Amplifier
pins: 1 IN- (in), 2 IN+ (in), 4 Cc1, 6 Cc2, 7 OUT (out), 8 ILIM, 10 -Vs (power), 12 +Vs (power)
text: +V; Ilim; V-

## PGA204
designator IC?
Programmable Gain, Instrumentation Amplifier
pins: 1 Vo1 (out), 2 NC, 3 NC, 4 VIN-, 5 VIN+ (in), 6 VosAdj (in), 7 VosAdj (in), 8 V- (power), 9 Vo2 (out), 10 REF (in), 11 Vo (out), 12 FB (in), 13 V+ (power), 14 DGND (power), 15 A0 (in), 16 A1 (in)
text: Over; volt.; Protect; +; -; 25k; Digitally Selected; Feedback Network

## PGA280
designator IC?
Zerø-Drift, High-Voltage, Programmable Gain Instrumentation Amplifier
pins: 1 VON (out), 2 VOP (out), 3 VOCM (in), 4 VSOP (power), 5 VSON (power), 6 VSP (power), 7 INP2 (in), 8 INN2 (in), 9 INP1 (in), 10 INN1 (in), 11 VSN (power), 12 DGND (power), 13 DVDD (power), 14 SDO (out), 15 SDI (in), 16 SCLK (in), 17 ~{CS} (io), 18 GPIO6 (io), 19 GPIO5 (io), 20 GPIO4 (io), 21 GPIO3 (io), 22 GPIO2 (io), 23 GPIO1 (io), 24 GPIO0 (io)

## THS4303
designator IC?
Wideband Fixed-Gain Amplifier
pins: 1 Vs- (power), 2 Vs- (power), 3 Vs- (power), 4 Vs- (power), 5 VOUT (out), 6 VOUT (out), 7 VOUT (out), 8 VOUT (out), 9 Vs+ (power), 10 Vs+ (power), 11 Vs+ (power), 12 Vs+ (power), 13 NC, 14 VIN- (in), 15 VIN+ (in), 16 ~{PD} (in), 17 GND
text: Rf; Rg; +V; -V

## THS4511-SP
designator IC?
Rad-Tolerant Class V, Wideband, Fully Differential Amplifier
pins: 1 Vs- (power), 2 Vs- (power), 3 NC (power), 4 Vin- (power), 5 Vout+ (power), 6 CM (power), 7 Vs+ (power), 8 Vs+ (power), 9 Vs+ (power), 10 Vs+ (power), 11 CM (power), 12 Vout- (power), 13 Vin+ (power), 14 ~{PD} (power), 15 Vs- (power), 16 Vs- (power)

## THS4524
designator IC?
Very Low Power Quad Channel Rail-to-Rail Output Fully Differential Amplifier
part A pins: 1 ~{PD} (in), 2 IN+ (in), 3 IN- (in), 4 VOCM, 35 Vs+ (power), 36 VOUT+ (out), 37 VOUT- (out), 38 Vs- (power)
part B pins: 6 ~{PD} (in), 7 IN+ (in), 8 IN- (in), 9 VOCM, 30 Vs+ (power), 31 VOUT+ (out), 32 VOUT- (out), 33 Vs- (power)
part C pins: 11 ~{PD} (in), 12 IN+ (in), 13 IN- (in), 14 VOCM, 25 Vs+ (power), 26 VOUT+ (out), 27 VOUT- (out), 28 Vs- (power)
part D pins: 16 ~{PD} (in), 17 IN+ (in), 18 IN- (in), 19 VOCM, 20 Vs+ (power), 21 VOUT+ (out), 22 VOUT- (out), 23 Vs- (power)
part E pins: 5 Vs- (power), 10 Vs- (power), 15 Vs- (power), 24 Vs- (power), 29 Vs- (power), 34 Vs- (power)
part A text: PD
part B text: PD
part C text: PD
part D text: PD

## THS7002
designator IC?
Dual 70MHz Programmable-Gain Amplifiers
part A pins: 4 PREAMP OUT (out), 5 PREAMP IN- (in), 6 PREAMP IN+ (in), 7 VCC- (power), 8 VCC+ (power), 9 PREAMP IN+ (in), 10 PREAMP IN- (in), 11 PREAMP OUT (out)
part B pins: 1 GND (power), 2 PGA REF (in), 3 PGA IN- (in), 12 PGA IN- (in), 13 PGA REF (in), 14 GND (power), 15 G0 (in), 16 G1 (in), 17 G2 (in), 18 SHDN (in), 19 PGA OUT (out), 20 CLAMP+ (in), 21 PGA VCC+ (power), 22 PGA VCC- (power), 23 CLAMP- (in), 24 PGA OUT (out), 25 SHDN (in), 26 G2 (in), 27 G1 (in), 28 G0 (in), 29 EP (power)
part A text: V+; A; V-; B
part B text: A; B

## TLV2471IDBVT
designator IC?
600uA 2.8MHz Rail-to-Rail Input/Output High-Drive Operational Amplifier With Shutdown
pins: 1 OUT (out), 2 V- (power), 3 IN+ (in), 4 IN- (in), 5 V+ (power)
text: VDD; GND